# Altium footprint library NRF51822-QFAC-T.PcbLib: 2 footprints
Each footprint in its own frame and in the unit in brackets; x right, y up, seen from the top. Pads: shape width x height; smd on the part's side, far side on the other; paste and mask are expansions set on the pad; w line width, h text height; cw(c..) or ccw(c..) is an arc to the next point about the centre after c.
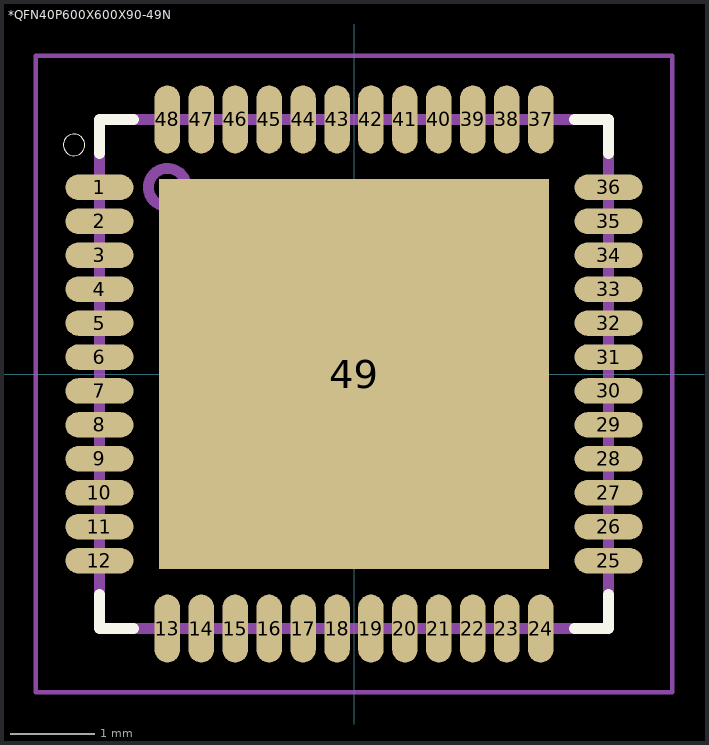
[diagram p0: the footprints below, top view; thin cyan lines are the x and y axes]

## *QFN40P600X600X90-49N [mm]
pads (49):
  oval 0.8x0.3 smd: 1(-3,2.2) 2(-3,1.8) 3(-3,1.4) 4(-3,1) 5(-3,0.6) 6(-3,0.2) 7(-3,-0.2) 8(-3,-0.6) 9(-3,-1) 10(-3,-1.4) 11(-3,-1.8) 12(-3,-2.2) 25(3,-2.2) 26(3,-1.8) 27(3,-1.4) 28(3,-1) 29(3,-0.6) 30(3,-0.2) 31(3,0.2) 32(3,0.6) 33(3,1) 34(3,1.4) 35(3,1.8) 36(3,2.2)
  oval 0.3x0.8 smd: 13(-2.2,-3) 14(-1.8,-3) 15(-1.4,-3) 16(-1,-3) 17(-0.6,-3) 18(-0.2,-3) 19(0.2,-3) 20(0.6,-3) 21(1,-3) 22(1.4,-3) 23(1.8,-3) 24(2.2,-3) 37(2.2,3) 38(1.8,3) 39(1.4,3) 40(1,3) 41(0.6,3) 42(0.2,3) 43(-0.2,3) 44(-0.6,3) 45(-1,3) 46(-1.4,3) 47(-1.8,3) 48(-2.2,3)
  rect 4.6x4.6 smd: 49(0,0)
Top Overlay:
  circle w0: c-3.3,2.7 r0.127
  lines w0.127: -3,-2.6 -3,-3 -2.6,-3 ; -3,2.6 -3,3 -2.6,3 ; 2.6,-3 3,-3 3,-2.6 ; 2.6,3 3,3 3,2.6
Top Paste:
  region: -1.453,1.45 1.45,1.45 1.45,-1.453 -1.453,-1.453
Top Solder:
  drawing of 48 lines, arcs and shapes, not listed
Mechanical 4:
  drawing of 106 lines, arcs and shapes, not listed
Mechanical 16:
  lines w0.05: -3.75,-3.75 -3.75,3.75 3.75,3.75 3.75,-3.75 -3.75,-3.75

## PCBComponent_1 [mm]